# Altium footprint library MUR840.PcbLib: 1 footprints
Each footprint in its own frame and in the unit in brackets; x right, y up, seen from the top. Pads: shape width x height; smd on the part's side, far side on the other; paste and mask are expansions set on the pad; w line width, h text height; cw(c..) or ccw(c..) is an arc to the next point about the centre after c.
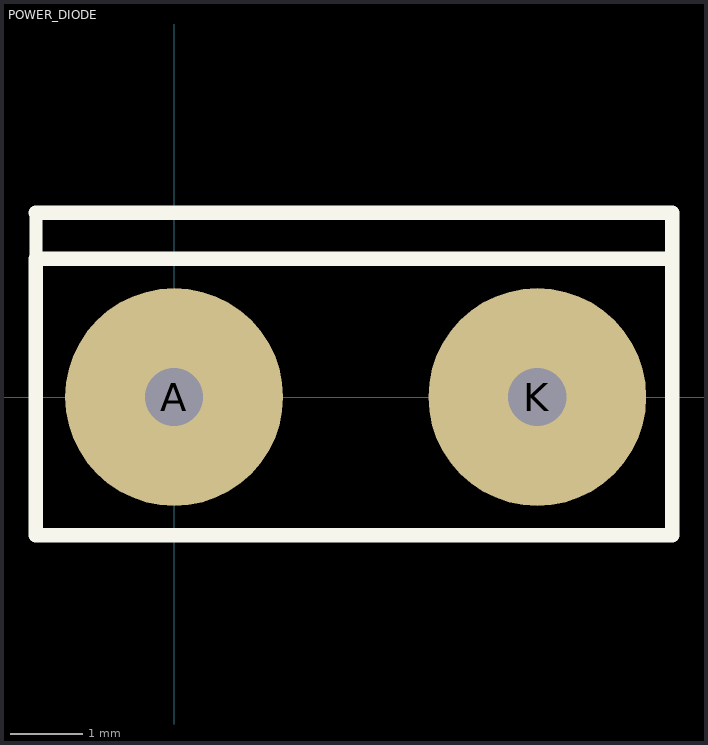
[diagram p0: the footprint, top view; thin cyan lines are the x and y axes]

## POWER_DIODE [mm]
pads (2):
  round 3 hole 0.8: A(0,0) K(5,0)
Top Overlay:
  lines w0.178: -1.905,1.905 -1.905,2.54
  lines w0.2: -1.905,2.54 6.858,2.54 6.858,1.905 ; 6.858,1.905 -1.905,1.905 -1.905,-1.905 6.858,-1.905 6.858,1.905